# Altium schematic symbol library HV 12-2.0K1000N.Schlib: 1 symbol
Pins are listed as number, name and electrical type; pins without a type are passive.

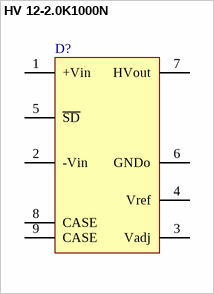
[diagram p0: symbol HV 12-2.0K1000N]

## HV 12-2.0K1000N
designator D?
DC-DC converter; Package Information: Latest Revision: ver11.0, Feb-2003; Configures: APEX II, APEX 20K, Mercury, ACEX 1K & FLEX Devices; Code - JEDEC: MS-026-ABA; Published: 17-Sep-2003; Datasheet: Latest Revision: ver1.1, Oct-2003; Package Reference: TQFP32; Publisher: Altium Limited
footprint SIP_MHV12_Traco
pins: 1 +Vin (power), 2 -Vin (power), 3 Vadj (power), 4 Vref (power), 5 ~{SD} (hiz), 6 GNDo (power), 7 HVout (power), 8 CASE (power), 9 CASE (power)